# EAGLE library part TXS0101 (library Highwind)
WARNING!!! THE PIN ORDERING ON THIS DEVICE IS WRONG!!! ALSO, IT"S NO LONGER IN STOCK ON FARNELL
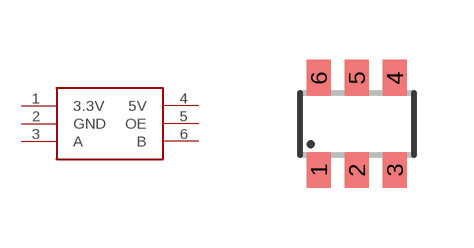
[diagram p6: symbol with the pads of SOT23-6; footprint SOT23-6]

Designator prefix -

## TXS0101  [SOT23-6]
1  3.3V
2  GND
3  A
4  5V
5  OE
6  B

## Footprint SOT23-6 (pad centres in mm)
Small Outline Transistor 6 lead
smd 0.6 x 0.9: 1 -0.95,-1.15; 2 0,-1.15; 3 0.95,-1.15; 4 0.95,1.15; 5 0,1.15; 6 -0.95,1.15